# Altium footprint library watch.PcbLib: 18 footprints (part 1 of 2)
Each footprint in its own frame and in the unit in brackets; x right, y up, seen from the top. Pads: shape width x height; smd on the part's side, far side on the other; paste and mask are expansions set on the pad; w line width, h text height; cw(c..) or ccw(c..) is an arc to the next point about the centre after c.
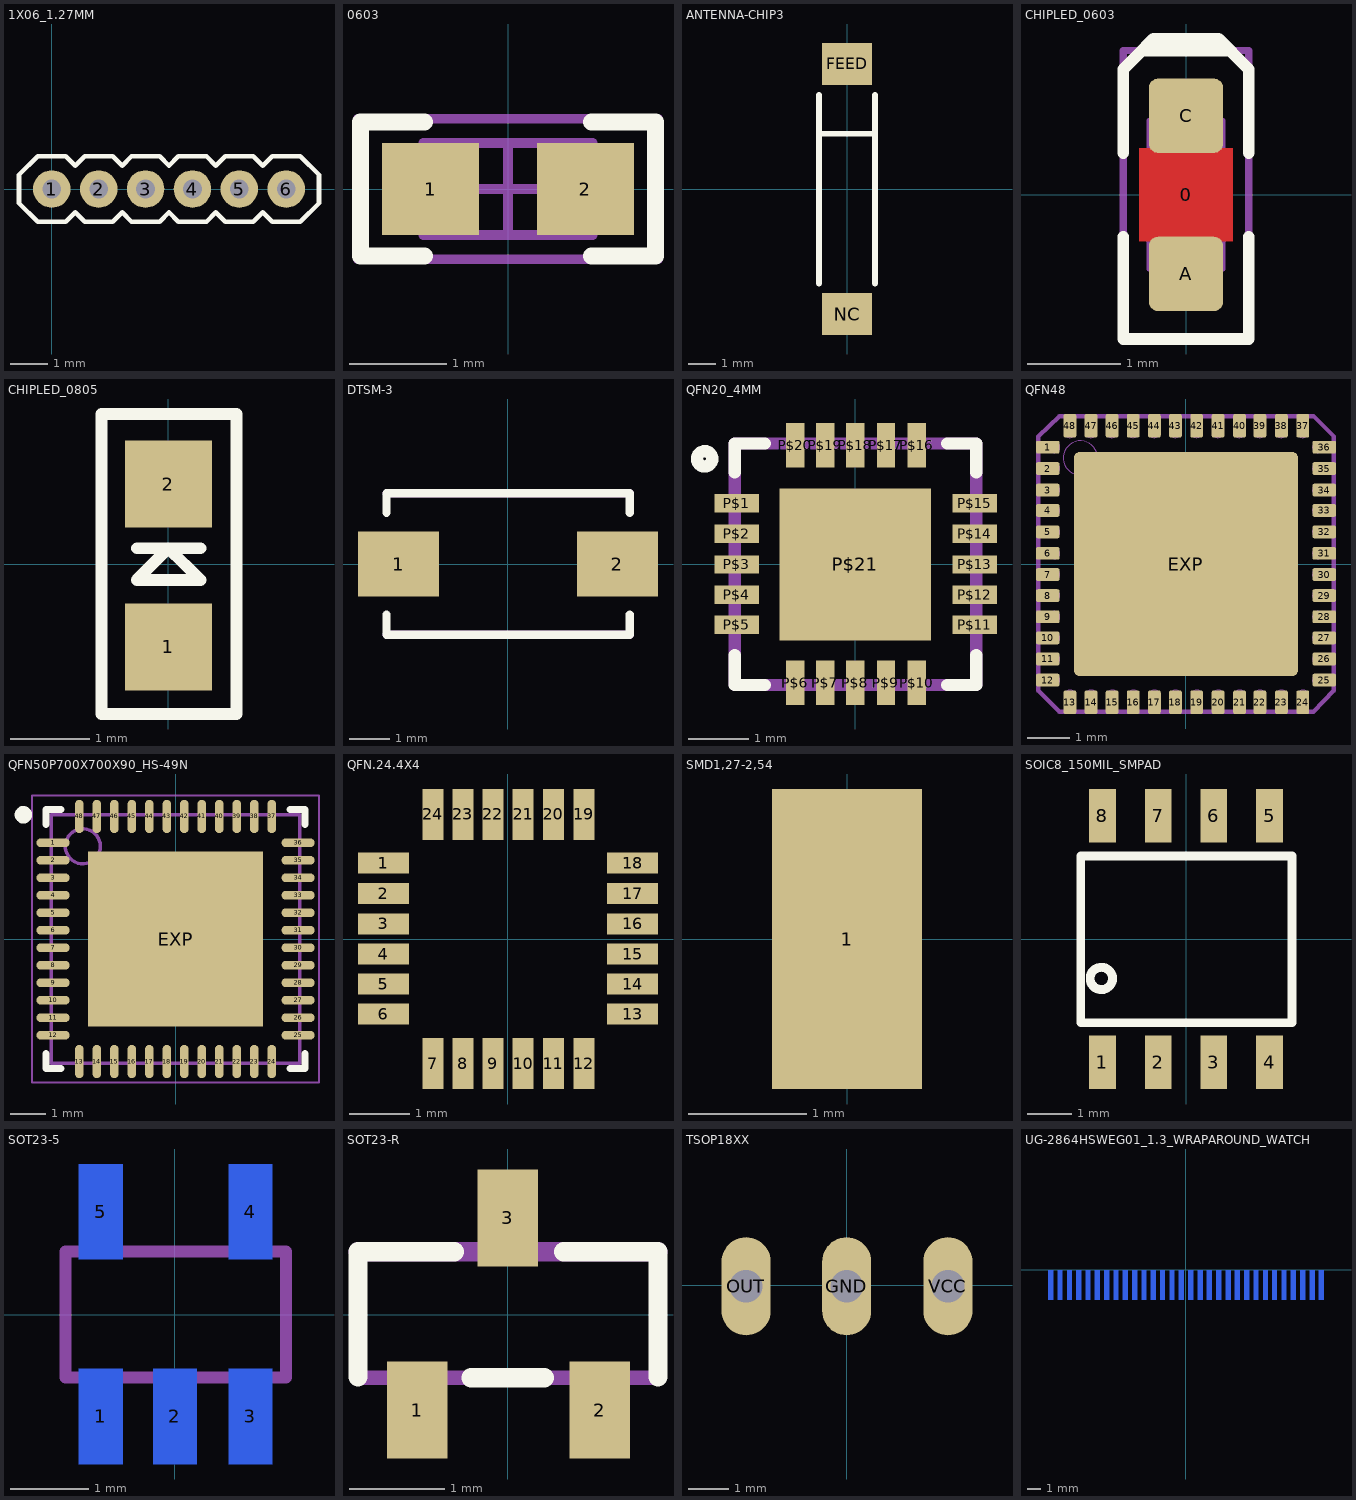
[diagram p0: the footprints below, top view; thin cyan lines are the x and y axes]

## 1X06_1.27MM [mil] "1X06_1.27MM"
pads (6):
  round 40 hole 20: 1(0,0) 2(50,0) 3(100,0) 4(150,0) 5(200,0) 6(250,0)
Top Overlay:
  lines w5: -35,-15 -15,-35 15,-35 25,-25 35,-35 65,-35 75,-25 85,-35 115,-35 125,-25 135,-35 165,-35 175,-25 185,-35 215,-35 225,-25 235,-35 265,-35 285,-15 285,15 265,35 235,35 225,25 215,35 185,35 175,25 165,35 135,35 125,25 115,35 85,35 75,25 65,35 35,35 25,25 15,35 -15,35 -35,15 -35,-15

## 0603 [mm] "0603"
pads (2):
  rect 1x0.95 smd: 1(-0.8,0) 2(0.8,0)
Top Overlay:
  lines w0.178: -0.864,-0.691 -1.524,-0.691 -1.524,0.693 -0.864,0.693 ; 0.864,-0.691 1.524,-0.691 1.524,0.693 0.864,0.693
Mechanical 5:
  lines w0.1: -1.55,-0.725 -1.55,0.725 1.55,0.725 1.55,-0.725 -1.55,-0.725
Mechanical 13:
  lines w0.1: -0.55,-0.475 -0.55,0.475 ; 0.55,-0.475 0.55,0.475 ; -0.875,-0.475 0.875,-0.475 0.875,0.475 -0.875,0.475 -0.875,-0.475
Mechanical 15:
  lines w0.1: -0.475,0 0.475,0 ; 0,-0.475 0,0.475 ; -1.55,-0.725 1.55,-0.725 1.55,0.725 -1.55,0.725 -1.55,-0.725
3D body: height 0.85, standoff 0, extent -0.874,-0.474 -0.551,0.474
3D body: height 0.85, standoff 0, extent -0.549,-0.474 0.549,0.474
3D body: height 0.85, standoff 0, extent 0.551,-0.474 0.874,0.474

## ANTENNA-CHIP3 [mil] "ANTENNA-CHIP3"
pads (2):
  rect 71x60 smd: FEED(0,178) NC(0,-177.17)
Top Overlay:
  lines w8: -40,-133.86 -40,79 ; -40,134 -40,79 ; 39.37,-133.86 39.37,79 ; 39.37,134 39.37,79 ; -40,79 39.37,79

## CHIPLED_0603 [mm] "CHIPLED_0603"
pads (3):
  round 0.254 on Mech15: 0(0,0)
  rrect25% 0.8x0.8 smd: A(0,-0.85) C(0,0.85)
Top Layer:
  pour cut-out: -0.5,-0.5 -0.5,0.5 0.5,0.5 0.5,-0.5
Top Overlay:
  lines w0.127: -0.675,-0.45 -0.675,-1.55 0.675,-1.55 0.675,-0.45 ; -0.675,0.45 -0.675,1.35 -0.475,1.55 0.475,1.55 0.675,1.35 0.675,0.45 ; -0.525,1.5 -0.35,1.675 0.35,1.675 0.5,1.525
Mechanical 13:
  lines w0.05: -0.4,-0.5 -0.4,-0.8 0.4,-0.8 0.4,-0.5 ; -0.4,0.5 -0.4,0.8 0.4,0.8 0.4,0.5 ; -0.398,-0.505 0.398,-0.505 ; -0.398,0.505 0.398,0.505 ; 0.399,-0.6 0.4,0.6 -0.4,0.6 -0.399,-0.6 0.4,-0.6 ; -0.398,-0.599 -0.398,0.599 0.398,0.599 0.398,-0.599 -0.398,-0.599
Mechanical 15:
  lines w0.076: -0.675,-1.55 -0.675,1.55 0.675,1.55 0.675,-1.55 -0.675,-1.55
3D body: height 0.75, standoff 0, extent -0.4,-0.8 0.4,0.8

## CHIPLED_0805 [mm] "CHIPLED_0805"
pads (2):
  rect 1.1x1.1 smd: 1(0,-1.05) 2(0,1.016)
Top Overlay:
  lines w0.15: -0.4,0.203 0,0.203 ; 0.406,0.203 0,0.203 ; 0,0.203 -0.4,-0.2 0.406,-0.2 0,0.203 ; -0.85,-1.9 0.864,-1.9 0.864,1.905 -0.85,1.905 -0.85,-1.9
Mechanical 30:
  text "A" at -0.1,-1.4 h0.39
  text "C" at -0.1,1.219 h0.39

## DTSM-3 [mil] "DTSM-3"
pads (2):
  rect 79x63 smd: 1(-106.3,0) 2(107,0)
Top Overlay:
  lines w8: -118.11,-49.21 -118.11,-68.9 119,-68.9 119,-49.21 ; -118.11,50 -118.11,69 119,69 119,50
Mechanical 16:
  lines w8: -118.11,-68.9 119,-68.9 ; -118.11,69 119,69
3D body: height 98.43, standoff 0, extent -120.08,-72.83 120.08,72.84

## QFN20_4MM [mil] "QFN20_4MM"
pads (21):
  rect 29x12 smd: P$1(-77.36,40) P$2(-77.36,20) P$3(-77.36,0) P$4(-77.36,-19.68) P$5(-77.36,-39.37) P$11(78,-39.37) P$12(78,-19.68) P$13(78,0) P$14(78,20) P$15(78,40)
  rect 12x29 smd: P$6(-39.37,-77.36) P$7(-19.68,-77.36) P$8(0,-77.36) P$9(20,-77.36) P$10(40,-77.36) P$16(40,78) P$17(20,78) P$18(0,78) P$19(-19.68,78) P$20(-39.37,78)
  rect 99x99 smd: P$21(0,0)
Top Overlay:
  circle w8: c-98.43,69 r5
  lines w8: -78.74,-59.06 -78.74,-78.74 -59.06,-78.74 ; -78.74,60 -78.74,79 -59.06,79 ; 60,-78.74 79,-78.74 79,-59.06 ; 60,79 79,79 79,60
Top Paste:
  rectangle: -39.37,10 -9.84,40
  rectangle: 10,10 40,40
  rectangle: -39.37,-39.37 -9.84,-9.84
  rectangle: 10,-39.37 40,-9.84
Mechanical 16:
  lines w8: -78.74,-78.74 79,-78.74 79,79 -78.74,79 -78.74,-78.74
3D body: height 39.37, standoff 3.94, extent -65,-65 65,65

## QFN48 [mil] "QFN48"
pads (49):
  rrect30% 22x12 smd: 1(-128.94,109) 2(-128.94,89) 3(-128.94,69) 4(-128.94,50) 5(-128.94,30) 6(-128.94,10) 7(-128.94,-9.84) 8(-128.94,-29.53) 9(-128.94,-49.21) 10(-128.94,-68.9) 11(-128.94,-88.58) 12(-128.94,-108.27) 25(129,-108.27) 26(129,-88.58) 27(129,-68.9) 28(129,-49.21) 29(129,-29.53) 30(129,-9.84) 31(129,10) 32(129,30) 33(129,50) 34(129,69) 35(129,89) 36(129,109)
  rrect30% 12x22 smd: 13(-108.27,-128.94) 14(-88.58,-128.94) 15(-68.9,-128.94) 16(-49.21,-128.94) 17(-29.53,-128.94) 18(-9.84,-128.94) 19(10,-128.94) 20(30,-128.94) 21(50,-128.94) 22(69,-128.94) 23(89,-128.94) 24(109,-128.94) 37(109,129) 38(89,129) 39(69,129) 40(50,129) 41(30,129) 42(10,129) 43(-9.84,129) 44(-29.53,129) 45(-49.21,129) 46(-68.9,129) 47(-88.58,129) 48(-108.27,129)
  rrect5% 209x209 smd: EXP(0,0)
Top Paste:
  drawing of 241 lines, arcs and shapes, not listed
Top Solder:
  drawing of 241 lines, arcs and shapes, not listed
Mechanical 16:
  circle w0: c-122.64,109 r5
  circle w0: c-122.64,89 r5
  circle w0: c-122.64,69 r5
  circle w0: c-122.64,50 r5
  circle w0: c-122.64,30 r5
  circle w0: c-122.64,10 r5
  circle w0: c-122.64,-9.84 r5
  circle w0: c-122.64,-29.53 r5
  circle w0: c-122.64,-49.21 r5
  circle w0: c-122.64,-68.9 r5
  circle w0: c-122.64,-88.58 r5
  circle w0: c-122.64,-108.27 r5
  circle w0: c-108.27,-122.64 r5
  circle w0: c-88.58,-122.64 r5
  circle w0: c-68.9,-122.64 r5
  circle w0: c-49.21,-122.64 r5
  circle w0: c-29.53,-122.64 r5
  circle w0: c-9.84,-122.64 r5
  circle w0: c10,-122.64 r5
  circle w0: c30,-122.64 r5
  circle w0: c50,-122.64 r5
  circle w0: c69,-122.64 r5
  circle w0: c89,-122.64 r5
  circle w0: c109,-122.64 r5
  circle w0: c123,-108.27 r5
  circle w0: c123,-88.58 r5
  circle w0: c123,-68.9 r5
  circle w0: c123,-49.21 r5
  circle w0: c123,-29.53 r5
  circle w0: c123,-9.84 r5
  circle w0: c123,10 r5
  circle w0: c123,30 r5
  circle w0: c123,50 r5
  circle w0: c123,69 r5
  circle w0: c123,89 r5
  circle w0: c123,109 r5
  circle w0: c109,123 r5
  circle w0: c89,123 r5
  circle w0: c69,123 r5
  circle w0: c50,123 r5
  circle w0: c30,123 r5
  circle w0: c10,123 r5
  circle w0: c-9.84,123 r5
  circle w0: c-29.53,123 r5
  circle w0: c-49.21,123 r5
  circle w0: c-68.9,123 r5
  circle w0: c-88.58,123 r5
  circle w0: c-108.27,123 r5
  circle w0: c-98.43,99 r16
  region: -139.8,113.03 -139.8,103.97 -122.8,103.97 -122.8,113.03
  region: -139.8,94.03 -139.8,84.97 -122.8,84.97 -122.8,94.03
  region: -139.8,74.03 -139.8,64.97 -122.8,64.97 -122.8,74.03
  region: -139.8,54.03 -139.8,44.97 -122.8,44.97 -122.8,54.03
  region: -139.3,34.53 -139.3,25.47 -123.3,25.47 -123.3,34.53
  region: -139.8,15.03 -139.8,5.97 -122.8,5.97 -122.8,15.03
  region: -139.76,-5.31 -139.76,-14.37 -122.83,-14.37 -122.83,-5.31
  region: -139.76,-25 -139.76,-34.05 -122.83,-34.05 -122.83,-25
  region: -139.76,-44.69 -139.76,-53.74 -122.83,-53.74 -122.83,-44.69
  region: -139.76,-64.37 -139.76,-73.43 -122.83,-73.43 -122.83,-64.37
  region: -139.76,-84.05 -139.76,-93.11 -122.83,-93.11 -122.83,-84.05
  region: -139.76,-103.74 -139.76,-112.8 -122.83,-112.8 -122.83,-103.74
  rectangle: -112.8,-139.76 -103.74,-122.83
  rectangle: -93.11,-139.76 -84.06,-122.83
  rectangle: -73.43,-139.76 -64.37,-122.83
  rectangle: -53.74,-139.76 -44.69,-122.83
  rectangle: -34.06,-139.76 -25,-122.83
  rectangle: -14.37,-139.76 -5.32,-122.83
  rectangle: 6,-139.76 15,-122.83
  rectangle: 25,-139.76 35,-122.83
  rectangle: 45,-139.76 54,-122.83
  rectangle: 65,-139.76 74,-122.83
  rectangle: 85,-139.76 94,-122.83
  rectangle: 104,-139.76 113,-122.84
  region: 139.96,-112.77 139.96,-103.77 123.03,-103.77 123.03,-112.77
  region: 139.96,-93.08 139.96,-84.08 123.04,-84.08 123.04,-93.08
  region: 139.97,-73.4 139.97,-64.4 123.04,-64.4 123.04,-73.4
  region: 139.96,-53.71 139.96,-44.71 123.03,-44.71 123.03,-53.71
  region: 139.96,-34.03 139.96,-25.03 123.04,-25.03 123.04,-34.03
  region: 139.96,-14.34 139.96,-5.34 123.04,-5.34 123.04,-14.34
  region: 140,6 140,15 123,15 123,6
  region: 139.5,25.5 139.5,34.5 123.5,34.5 123.5,25.5
  region: 140,45 140,54 123,54 123,45
  region: 140,65 140,74 123,74 123,65
  region: 140,85 140,94 123,94 123,85
  region: 140,104 140,113 123,113 123,104
  region: 113,140 104,140 104,123 113,123
  region: 94,140 85,140 85,123 94,123
  region: 74,140 65,140 65,123 74,123
  region: 54,140 45,140 45,123 54,123
  region: 35,140 25,140 25,123 35,123
  region: 15,140 6,140 6,123 15,123
  region: -5.32,140 -14.37,140 -14.37,123 -5.32,123
  region: -25,140 -34.06,140 -34.06,123 -25,123
  region: -44.68,140 -53.74,140 -53.74,123 -44.68,123
  region: -64.37,140 -73.42,140 -73.42,123 -64.37,123
  region: -84.06,140 -93.11,140 -93.11,123 -84.06,123
  region: -103.74,140 -112.8,140 -112.8,123 -103.74,123
  lines w4: -137.8,-118.11 -118.11,-137.8 119,-137.8 138,-118.11 138,119 119,138 -118.11,138 -137.8,119 -137.8,-118.11
3D body: height 39.37, standoff 3.94, extent -120,-120 120,120

## QFN50P700X700X90_HS-49N [mm] "QFN, 48-Leads, Body 7.00x7.00mm, Pitch 0.50mm, Thermal Pad 5.40x5.40mm, IPC Medium Density"
height 0.9
pads (49):
  oval 0.95x0.25 smd: 1(-3.502,2.75) 2(-3.502,2.25) 3(-3.502,1.75) 4(-3.502,1.25) 5(-3.502,0.75) 6(-3.502,0.25) 7(-3.502,-0.25) 8(-3.502,-0.75) 9(-3.502,-1.25) 10(-3.502,-1.75) 11(-3.502,-2.25) 12(-3.502,-2.75) 25(3.502,-2.75) 26(3.502,-2.25) 27(3.502,-1.75) 28(3.502,-1.25) 29(3.502,-0.75) 30(3.502,-0.25) 31(3.502,0.25) 32(3.502,0.75) 33(3.502,1.25) 34(3.502,1.75) 35(3.502,2.25) 36(3.502,2.75)
  oval 0.25x0.95 smd: 13(-2.75,-3.502) 14(-2.25,-3.502) 15(-1.75,-3.502) 16(-1.25,-3.502) 17(-0.75,-3.502) 18(-0.25,-3.502) 19(0.25,-3.502) 20(0.75,-3.502) 21(1.25,-3.502) 22(1.75,-3.502) 23(2.25,-3.502) 24(2.75,-3.502) 37(2.75,3.502) 38(2.25,3.502) 39(1.75,3.502) 40(1.25,3.502) 41(0.75,3.502) 42(0.25,3.502) 43(-0.25,3.502) 44(-0.75,3.502) 45(-1.25,3.502) 46(-1.75,3.502) 47(-2.25,3.502) 48(-2.75,3.502)
  rect 5x5 smd: EXP(0,0)
Top Overlay:
  circle w0.25: c-4.35,3.55 r0.125
  lines w0.2: -3.7,-3.275 -3.7,-3.7 -3.275,-3.7 ; -3.7,3.275 -3.7,3.7 -3.275,3.7 ; 3.275,-3.7 3.7,-3.7 3.7,-3.275 ; 3.275,3.7 3.7,3.7 3.7,3.275
Mechanical 13:
  circle w0.1: c-2.65,2.65 r0.5
  lines w0.1: -3.55,-3.55 3.55,-3.55 3.55,3.55 -3.55,3.55 -3.55,-3.55
Mechanical 15:
  lines w0.05: -4.1,-4.1 4.1,-4.1 4.1,4.1 -4.1,4.1 -4.1,-4.1
  lines w0.1: -0.5,0 0.5,0 ; 0,-0.5 0,0.5
3D body: height 0.9, standoff 0.01, extent -3.55,-3.55 3.55,3.55

## QFN.24.4X4 [mm] "QFN.24.4X4"
pads (24):
  rect 0.85x0.35 smd: 1(-2.075,1.27) 2(-2.075,0.762) 3(-2.075,0.254) 4(-2.075,-0.25) 5(-2.075,-0.75) 6(-2.075,-1.25) 13(2.081,-1.25) 14(2.081,-0.75) 15(2.081,-0.25) 16(2.081,0.254) 17(2.081,0.762) 18(2.081,1.27)
  rect 0.35x0.85 smd: 7(-1.25,-2.075) 8(-0.75,-2.075) 9(-0.25,-2.075) 10(0.254,-2.075) 11(0.762,-2.075) 12(1.27,-2.075) 19(1.27,2.081) 20(0.762,2.081) 21(0.254,2.081) 22(-0.25,2.081) 23(-0.75,2.081) 24(-1.25,2.081)
Top Paste:
  rectangle: 1.067,-2.4 1.448,-1.55
  rectangle: 0.584,-2.4 0.965,-1.55
  rectangle: 0.076,-2.4 0.457,-1.55
  rectangle: -0.44,-2.4 -0.06,-1.55
  rectangle: -0.94,-2.4 -0.56,-1.55
  rectangle: -1.44,-2.4 -1.06,-1.55
  rectangle: 1.575,1.067 2.413,1.448
  rectangle: 1.575,0.584 2.413,0.965
  rectangle: 1.575,0.076 2.413,0.457
  rectangle: 1.575,-0.44 2.413,-0.06
  rectangle: 1.575,-0.94 2.413,-0.56
  rectangle: 1.575,-1.44 2.413,-1.06
  rectangle: 1.067,1.575 1.448,2.413
  rectangle: 0.584,1.575 0.965,2.413
  rectangle: 0.076,1.575 0.457,2.413
  rectangle: -0.44,1.575 -0.06,2.413
  rectangle: -0.94,1.575 -0.56,2.413
  rectangle: -1.44,1.575 -1.06,2.413
  rectangle: -2.4,1.067 -1.55,1.448
  rectangle: -2.4,0.584 -1.55,0.965
  rectangle: -2.4,0.076 -1.55,0.457
  rectangle: -2.4,-0.44 -1.55,-0.06
  rectangle: -2.4,-0.94 -1.55,-0.56
  rectangle: -2.4,-1.44 -1.55,-1.06
Top Solder:
  rectangle: 1.067,-2.4 1.448,-1.55
  rectangle: 0.584,-2.4 0.965,-1.55
  rectangle: 0.076,-2.4 0.457,-1.55
  rectangle: -0.44,-2.4 -0.06,-1.55
  rectangle: -0.94,-2.4 -0.56,-1.55
  rectangle: -1.44,-2.4 -1.06,-1.55
  rectangle: 1.575,1.067 2.413,1.448
  rectangle: 1.575,0.584 2.413,0.965
  rectangle: 1.575,0.076 2.413,0.457
  rectangle: 1.575,-0.44 2.413,-0.06
  rectangle: 1.575,-0.94 2.413,-0.56
  rectangle: 1.575,-1.44 2.413,-1.06
  rectangle: 1.067,1.575 1.448,2.413
  rectangle: 0.584,1.575 0.965,2.413
  rectangle: 0.076,1.575 0.457,2.413
  rectangle: -0.44,1.575 -0.06,2.413
  rectangle: -0.94,1.575 -0.56,2.413
  rectangle: -1.44,1.575 -1.06,2.413
  rectangle: -2.4,1.067 -1.55,1.448
  rectangle: -2.4,0.584 -1.55,0.965
  rectangle: -2.4,0.076 -1.55,0.457
  rectangle: -2.4,-0.44 -1.55,-0.06
  rectangle: -2.4,-0.94 -1.55,-0.56
  rectangle: -2.4,-1.44 -1.55,-1.06
3D body: height 1, standoff 0.1, extent -1.8,-1.8 1.7,1.8

## SMD1,27-2,54 [mil] "SMD1,27-2,54"
pads (1):
  rect 50x100 smd: 1(0,0)

## SOIC8_150MIL_SMPAD [mil] "SOIC8_150MIL_SMPAD"
pads (8):
  rect 24x48 smd: 1(-75,-110.24) 2(-25,-110.24) 3(25,-110.24) 4(75,-110.24) 5(75,111) 6(25,111) 7(-25,111) 8(-75,111)
Top Overlay:
  circle w8: c-76,-35 r10
  lines w8: -94.49,-74.8 95,-74.8 95,75 -94.49,75 -94.49,-74.8
3D body: height 39.37, standoff 3.94, extent -90,-100 95,100

## SOT23-5 [mil] "SOT23-5"
pads (5):
  rect 22x48 smd far side: 1(-37.4,-51.19) 2(0,-51.19) 3(38,-51.19) 4(38,52) 5(-37.4,52)
Bottom Overlay:
  circle w0: c-63,-40 r5
  lines w8: -50,-16.91 -50,17 ; -10.57,28 11,28 ; 50,-16.91 50,17
Mechanical 16:
  rectangle: -47.24,-59.06 -27.56,-33.46
  rectangle: -9.84,-59.06 10,-33.46
  rectangle: 28,-59.06 48,-33.46
  rectangle: 28,34 48,60
  rectangle: -47.24,34 -27.56,60
  lines w6: -55.12,-31.5 56,-31.5 56,32 -55.12,32 -55.12,-31.5

## SOT23-R [mil] "SOT23-R"
pads (3):
  rect 25x40 smd: 1(-37.4,-39.37) 2(38,-39.37) 3(0,40)
Top Overlay:
  lines w8: -61.91,-25.68 -61.91,26 -22.19,26 ; -15.21,-26 15,-26 ; 23,26 62,26 62,-25.68
Mechanical 16:
  rectangle: -46,-51 -28,-28
  rectangle: 28,-51 46,-28
  rectangle: -9,28 9,51
  lines w6: -61.91,26 -61.91,-26 62,-26 62,26
  lines w8: -61.91,26 62,26

## TSOP18XX [mil] "TSOP18XX"
pads (3):
  oval 48x96 hole 32: GND(-0.05,-1.05) OUT(-98.47,-1.05) VCC(99,-1.05)
Bottom Overlay:
  lines w5: -78.79,-79.79 ccw(c0.11,-50.2) 79,-79.79 ; -78.79,-79.79 79,-79.79 ; -78.79,-79.79 -98.47,-79.79 -118.16,-1.05 -98.47,78 99,78 119,-1.05 99,-79.79 79,-79.79

## UG-2864HSWEG01_1.3_WRAPAROUND_WATCH [mil] "UG-2864HSWEG01_1.3_WRAPAROUND_WATCH"
pads (30):
  rect 14x87 smd far side: 1(-399.61,-45.37) 2(-372.05,-45.37) 3(-344.49,-45.37) 4(-316.93,-45.37) 5(-289.37,-45.37) 6(-261.81,-45.37) 7(-234.25,-45.37) 8(-206.69,-45.37) 9(-179.13,-45.37) 10(-151.57,-45.37) 11(-124.02,-45.37) 12(-96.46,-45.37) 13(-68.9,-45.37) 14(-41.34,-45.37) 15(-13.78,-45.37) 16(14,-45.37) 17(42,-45.37) 18(69,-45.37) 19(97,-45.37) 20(125,-45.37) 21(152,-45.37) 22(180,-45.37) 23(207,-45.37) 24(235,-45.37) 25(262,-45.37) 26(290,-45.37) 27(317,-45.37) 28(345,-45.37) 29(373,-45.37) 30(400,-45.37)
Bottom Overlay:
  lines w10: -437.5,-275 -437.5,13 438,13 438,-275
Mechanical 30:
  text "30" at 412,56 h27.2
  text "20" at 130,56 h27.2
  text "10" at -143.7,56 h27.2
  text "1" at -391.73,60 h27.2